# Altium schematic symbol library VN7040ASTR.SchLib: 1 symbol
Pins are listed as number, name and electrical type; pins without a type are passive.

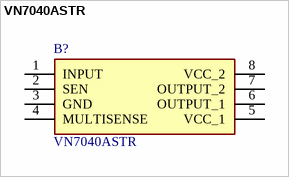
[diagram p0: symbol VN7040ASTR]

## VN7040ASTR
designator B?
Current Limit SW 1-IN 1-OUT to 34A Automotive 8-Pin SO N T/R; Manufacturer_Name: STMicroelectronics; Geometry.Height: 1.75mm; Mouser Part Number: 511-VN7040ASTR; Mouser Price/Stock: https://www.mouser.co.uk/ProductDetail/STMicroelectronics/VN7040ASTR?qs=N2Tevpb%252BvoafXfmnB0CY5g%3D%3D; Manufacturer_Part_Number: VN7040ASTR; Datasheet Link: https://www.st.com/content/ccc/resource/technical/document/datasheet/5f/e6/42/6c/dc/d9/4c/65/DM00157100.pdf/files/DM00157100.pdf/jcr:content/translations/en.DM00157100.pdf
footprint SOIC127P600X175-8N
pins: 1 INPUT, 2 SEN, 3 GND, 4 MULTISENSE, 5 VCC_1, 6 OUTPUT_1, 7 OUTPUT_2, 8 VCC_2